# EAGLE library part A5555H-836.5 (library saw-filters-narrowband)
A5555H-836.5 Параметр Ед. изм. Мин. значение Тип. значение Макс. значение Центральная частота МГц 836 836.5 837 Минимальное вносимое затухание дБ 2.5 2.7 3 Полоса среза по уровню -2 дБ МГц 34 37 38 Полоса среза по уровню -20 дБ МГц - 55.5 - Неравномерность АЧХ дБ - 0.9 1.8 Групповое время задержки нс - - - Гарантированное затухание дБ - 50 - Температурный диапазон °C -55 22 +85 Материал подложки - - Ниобат лития 64 -
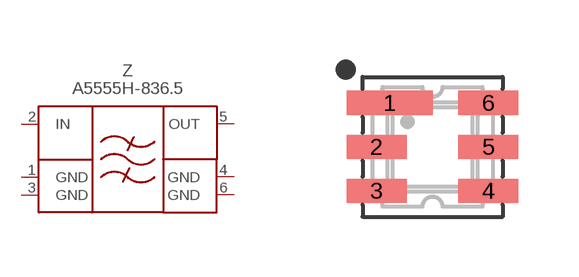
[diagram p132: symbol with the pads of DCC6; footprint DCC6]

Designator prefix Z

## A5555H-836.5  [DCC6]
1  GND  pwr
2  IN  in
3  GND  pwr
4  GND  pwr
5  OUT  out
6  GND  pwr

## Footprint DCC6 (pad centres in mm)
smd 2.15 x 0.6: 1 -1.075,1.1
smd 1.5 x 0.6: 2 -1.4,0; 3 -1.4,-1.1; 4 1.4,-1.1; 5 1.4,0; 6 1.4,1.1